# Altium footprint library PcbLib1.PcbLib: 27 footprints (part 1 of 2)
Each footprint in its own frame and in the unit in brackets; x right, y up, seen from the top. Pads: shape width x height; smd on the part's side, far side on the other; paste and mask are expansions set on the pad; w line width, h text height; cw(c..) or ccw(c..) is an arc to the next point about the centre after c.
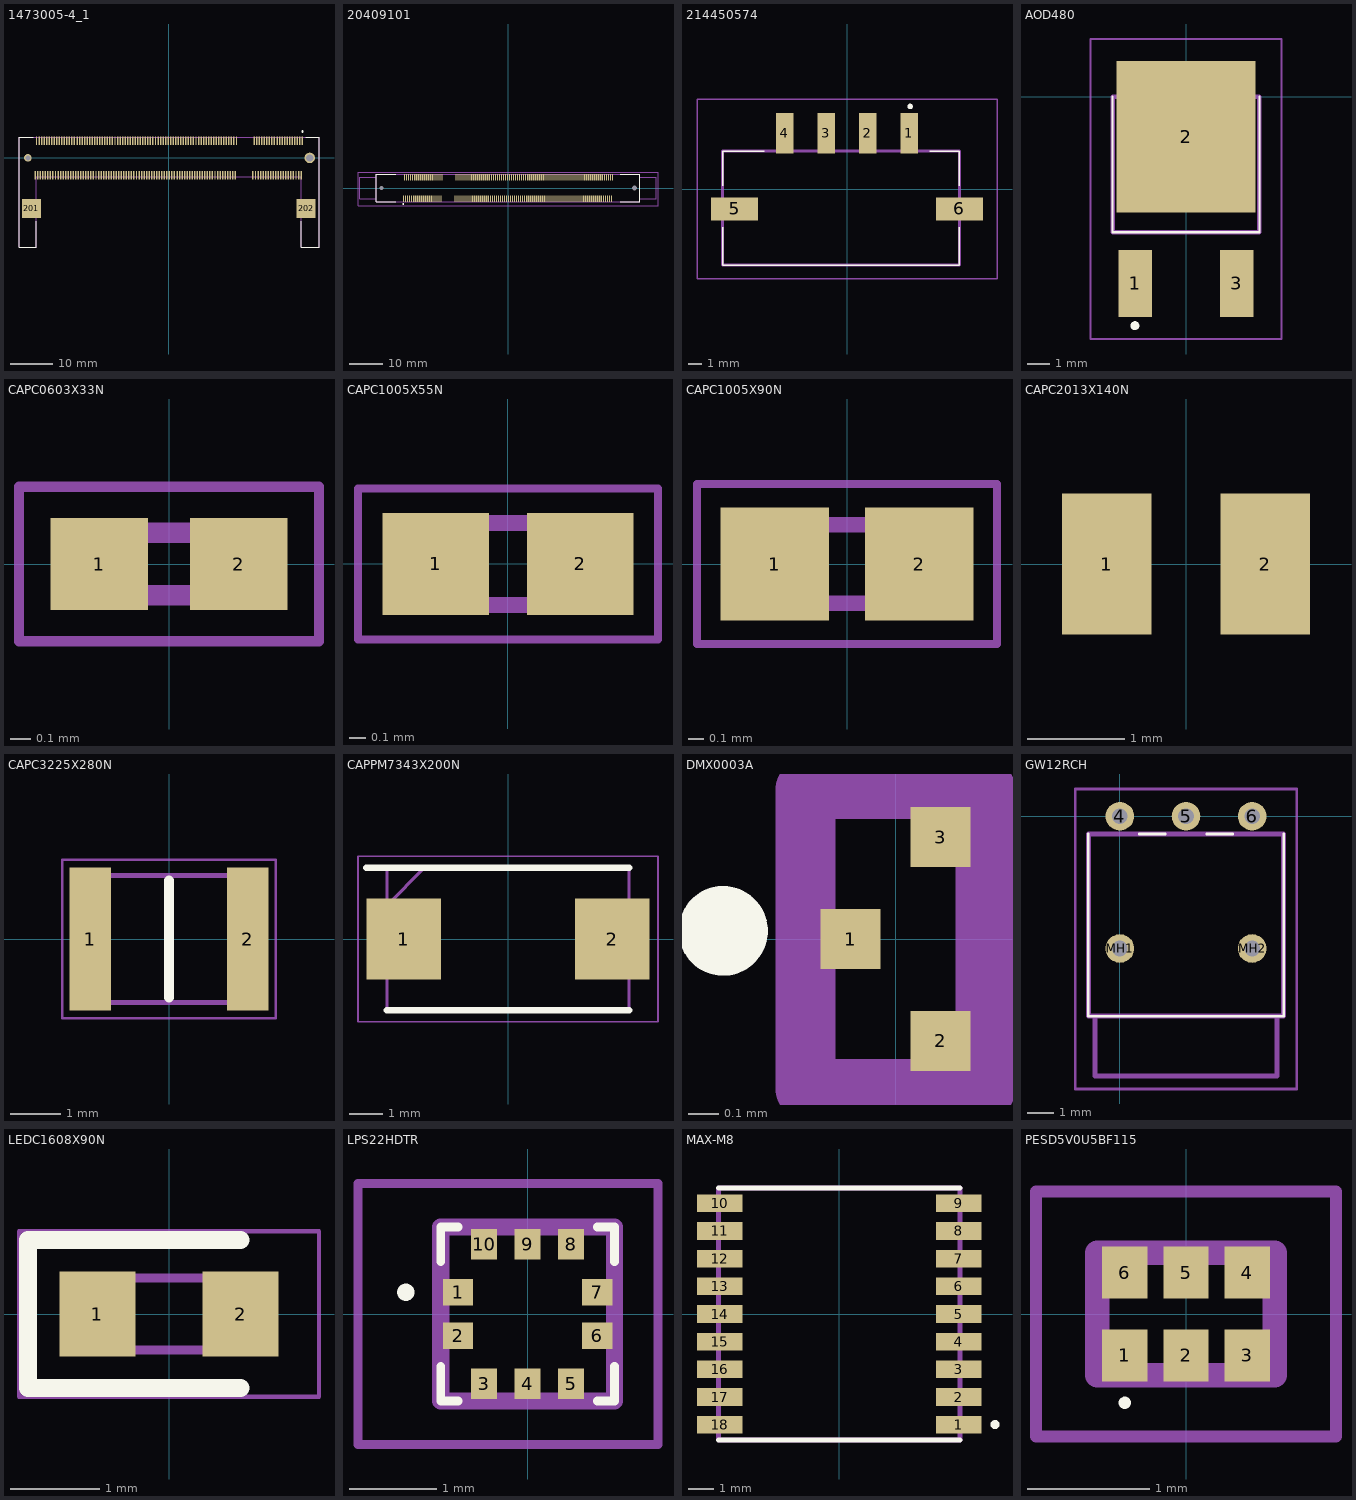
[diagram p0: the footprints below, top view; thin cyan lines are the x and y axes]

## 1473005-4_1 [mm]
pads (204):
  rect 0.35x2 smd: 1(31.65,4.1) 2(31.35,-4.1) 3(31.05,4.1) 4(30.75,-4.1) 5(30.45,4.1) 6(30.15,-4.1) 7(29.85,4.1) 8(29.55,-4.1) 9(29.25,4.1) 10(28.95,-4.1) 11(28.65,4.1) 12(28.35,-4.1) 13(28.05,4.1) 14(27.75,-4.1) 15(27.45,4.1) 16(27.15,-4.1) 17(26.85,4.1) 18(26.55,-4.1) 19(26.25,4.1) 20(25.95,-4.1) 21(25.65,4.1) 22(25.35,-4.1) 23(25.05,4.1) 24(24.75,-4.1) 25(24.45,4.1) 26(24.15,-4.1) 27(23.85,4.1) 28(23.55,-4.1) 29(23.25,4.1) 30(22.95,-4.1) 31(22.65,4.1) 32(22.35,-4.1) 33(22.05,4.1) 34(21.75,-4.1) 35(21.45,4.1) 36(21.15,-4.1) 37(20.85,4.1) 38(20.55,-4.1) 39(20.25,4.1) 40(19.95,-4.1) 41(16.05,4.1) 42(15.75,-4.1) 43(15.45,4.1) 44(15.15,-4.1) 45(14.85,4.1) 46(14.55,-4.1) 47(14.25,4.1) 48(13.95,-4.1) 49(13.65,4.1) 50(13.35,-4.1) 51(13.05,4.1) 52(12.75,-4.1) 53(12.45,4.1) 54(12.15,-4.1) 55(11.85,4.1) 56(11.55,-4.1) 57(11.25,4.1) 58(10.95,-4.1) 59(10.65,4.1) 60(10.35,-4.1) 61(10.05,4.1) 62(9.75,-4.1) 63(9.45,4.1) 64(9.15,-4.1) 65(8.85,4.1) 66(8.55,-4.1) 67(8.25,4.1) 68(7.95,-4.1) 69(7.65,4.1) 70(7.35,-4.1) 71(7.05,4.1) 72(6.75,-4.1) 73(6.45,4.1) 74(6.15,-4.1) 75(5.85,4.1) 76(5.55,-4.1) 77(5.25,4.1) 78(4.95,-4.1) 79(4.65,4.1) 80(4.35,-4.1) 81(4.05,4.1) 82(3.75,-4.1) 83(3.45,4.1) 84(3.15,-4.1) 85(2.85,4.1) 86(2.55,-4.1) 87(2.25,4.1) 88(1.95,-4.1) 89(1.65,4.1) 90(1.35,-4.1) 91(1.05,4.1) 92(0.75,-4.1) 93(0.45,4.1) 94(0.15,-4.1) 95(-0.15,4.1) 96(-0.45,-4.1) 97(-0.75,4.1) 98(-1.05,-4.1) 99(-1.35,4.1) 100(-1.65,-4.1) 101(-1.95,4.1) 102(-2.25,-4.1) 103(-2.55,4.1) 104(-2.85,-4.1) 105(-3.15,4.1) 106(-3.45,-4.1) 107(-3.75,4.1) 108(-4.05,-4.1) 109(-4.35,4.1) 110(-4.65,-4.1) 111(-4.95,4.1) 112(-5.25,-4.1) 113(-5.55,4.1) 114(-5.85,-4.1) 115(-6.15,4.1) 116(-6.45,-4.1) 117(-6.75,4.1) 118(-7.05,-4.1) 119(-7.35,4.1) 120(-7.65,-4.1) 121(-7.95,4.1) 122(-8.25,-4.1) 123(-8.55,4.1) 124(-8.85,-4.1) 125(-9.15,4.1) 126(-9.45,-4.1) 127(-9.75,4.1) 128(-10.05,-4.1) 129(-10.35,4.1) 130(-10.65,-4.1) 131(-10.95,4.1) 132(-11.25,-4.1) 133(-11.55,4.1) 134(-11.85,-4.1) 135(-12.15,4.1) 136(-12.45,-4.1) 137(-12.75,4.1) 138(-13.05,-4.1) 139(-13.35,4.1) 140(-13.65,-4.1) 141(-13.95,4.1) 142(-14.25,-4.1) 143(-14.55,4.1) 144(-14.85,-4.1) 145(-15.15,4.1) 146(-15.45,-4.1) 147(-15.75,4.1) 148(-16.05,-4.1) 149(-16.35,4.1) 150(-16.65,-4.1) 151(-16.95,4.1) 152(-17.25,-4.1) 153(-17.55,4.1) 154(-17.85,-4.1) 155(-18.15,4.1) 156(-18.45,-4.1) 157(-18.75,4.1) 158(-19.05,-4.1) 159(-19.35,4.1) 160(-19.65,-4.1) 161(-19.95,4.1) 162(-20.25,-4.1) 163(-20.55,4.1) 164(-20.85,-4.1) 165(-21.15,4.1) 166(-21.45,-4.1) 167(-21.75,4.1) 168(-22.05,-4.1) 169(-22.35,4.1) 170(-22.65,-4.1) 171(-22.95,4.1) 172(-23.25,-4.1) 173(-23.55,4.1) 174(-23.85,-4.1) 175(-24.15,4.1) 176(-24.45,-4.1) 177(-24.75,4.1) 178(-25.05,-4.1) 179(-25.35,4.1) 180(-25.65,-4.1) 181(-25.95,4.1) 182(-26.25,-4.1) 183(-26.55,4.1) 184(-26.85,-4.1) 185(-27.15,4.1) 186(-27.45,-4.1) 187(-27.75,4.1) 188(-28.05,-4.1) 189(-28.35,4.1) 190(-28.65,-4.1) 191(-28.95,4.1) 192(-29.25,-4.1) 193(-29.55,4.1) 194(-29.85,-4.1) 195(-30.15,4.1) 196(-30.45,-4.1) 197(-30.75,4.1) 198(-31.05,-4.1) 199(-31.35,4.1) 200(-31.65,-4.1)
  rect 4.5x4.6 smd: 201(-32.55,-12) 202(32.55,-12)
  round 2.5 hole 1.7: 203(33.4,0)
  round 1.8 hole 1.2: 204(-33.4,0)
Top Overlay:
  circle w0.2: c31.678,6.248 r0.144
  lines w0.2: -32.16,4.85 -35.5,4.85 -35.5,-21.15 -31.4,-21.15 -31.4,-14.967 ; 31.4,-14.967 31.4,-21.15 35.6,-21.15 35.6,4.85 ; 32.5,4.85 35.5,4.85
Mechanical 13:
  lines w0.2: 35.5,4.85 -35.5,4.85 -35.5,-21.15 -31.4,-21.15 -31.4,-4.45 31.4,-4.45 31.4,-21.15 35.6,-21.15 35.6,4.85
3D body "1473005-4.stp": height 17.34, standoff -8.7, extent -35.75,-1.1 35.75,5.325

## 20409101 [mm]
pads (202):
  rect 0.35x2 smd: 1(-31.65,-3.3) 2(-31.35,3.3) 3(-31.05,-3.3) 4(-30.75,3.3) 5(-30.45,-3.3) 6(-30.15,3.3) 7(-29.85,-3.3) 8(-29.55,3.3) 9(-29.25,-3.3) 10(-28.95,3.3) 11(-28.65,-3.3) 12(-28.35,3.3) 13(-28.05,-3.3) 14(-27.75,3.3) 15(-27.45,-3.3) 16(-27.15,3.3) 17(-26.85,-3.3) 18(-26.55,3.3) 19(-26.25,-3.3) 20(-25.95,3.3) 21(-25.65,-3.3) 22(-25.35,3.3) 23(-25.05,-3.3) 24(-24.75,3.3) 25(-24.45,-3.3) 26(-24.15,3.3) 27(-23.85,-3.3) 28(-23.55,3.3) 29(-23.25,-3.3) 30(-22.95,3.3) 31(-22.65,-3.3) 32(-22.35,3.3) 33(-22.05,-3.3) 34(-21.75,3.3) 35(-21.45,-3.3) 36(-21.15,3.3) 37(-20.85,-3.3) 38(-20.55,3.3) 39(-20.25,-3.3) 40(-19.95,3.3) 41(-16.05,-3.3) 42(-15.75,3.3) 43(-15.45,-3.3) 44(-15.15,3.3) 45(-14.85,-3.3) 46(-14.55,3.3) 47(-14.25,-3.3) 48(-13.95,3.3) 49(-13.65,-3.3) 50(-13.35,3.3) 51(-13.05,-3.3) 52(-12.75,3.3) 53(-12.45,-3.3) 54(-12.15,3.3) 55(-11.85,-3.3) 56(-11.55,3.3) 57(-11.25,-3.3) 58(-10.95,3.3) 59(-10.65,-3.3) 60(-10.35,3.3) 61(-10.05,-3.3) 62(-9.75,3.3) 63(-9.45,-3.3) 64(-9.15,3.3) 65(-8.85,-3.3) 66(-8.55,3.3) 67(-8.25,-3.3) 68(-7.95,3.3) 69(-7.65,-3.3) 70(-7.35,3.3) 71(-7.05,-3.3) 72(-6.75,3.3) 73(-6.45,-3.3) 74(-6.15,3.3) 75(-5.85,-3.3) 76(-5.55,3.3) 77(-5.25,-3.3) 78(-4.95,3.3) 79(-4.65,-3.3) 80(-4.35,3.3) 81(-4.05,-3.3) 82(-3.75,3.3) 83(-3.45,-3.3) 84(-3.15,3.3) 85(-2.85,-3.3) 86(-2.55,3.3) 87(-2.25,-3.3) 88(-1.95,3.3) 89(-1.65,-3.3) 90(-1.35,3.3) 91(-1.05,-3.3) 92(-0.75,3.3) 93(-0.45,-3.3) 94(-0.15,3.3) 95(0.15,-3.3) 96(0.45,3.3) 97(0.75,-3.3) 98(1.05,3.3) 99(1.35,-3.3) 100(1.65,3.3) 101(1.95,-3.3) 102(2.25,3.3) 103(2.55,-3.3) 104(2.85,3.3) 105(3.15,-3.3) 106(3.45,3.3) 107(3.75,-3.3) 108(4.05,3.3) 109(4.35,-3.3) 110(4.65,3.3) 111(4.95,-3.3) 112(5.25,3.3) 113(5.55,-3.3) 114(5.85,3.3) 115(6.15,-3.3) 116(6.45,3.3) 117(6.75,-3.3) 118(7.05,3.3) 119(7.35,-3.3) 120(7.65,3.3) 121(7.95,-3.3) 122(8.25,3.3) 123(8.55,-3.3) 124(8.85,3.3) 125(9.15,-3.3) 126(9.45,3.3) 127(9.75,-3.3) 128(10.05,3.3) 129(10.35,-3.3) 130(10.65,3.3) 131(10.95,-3.3) 132(11.25,3.3) 133(11.55,-3.3) 134(11.85,3.3) 135(12.15,-3.3) 136(12.45,3.3) 137(12.75,-3.3) 138(13.05,3.3) 139(13.35,-3.3) 140(13.65,3.3) 141(13.95,-3.3) 142(14.25,3.3) 143(14.55,-3.3) 144(14.85,3.3) 145(15.45,3.3) 146(15.15,-3.3) 147(16.05,3.3) 148(15.75,-3.3) 149(16.65,3.3) 150(16.35,-3.3) 151(17.25,3.3) 152(16.95,-3.3) 153(17.85,3.3) 154(17.55,-3.3) 155(18.45,3.3) 156(18.15,-3.3) 157(19.05,3.3) 158(18.75,-3.3) 159(19.65,3.3) 160(19.35,-3.3) 161(20.25,3.3) 162(19.95,-3.3) 163(20.85,3.3) 164(20.55,-3.3) 165(21.45,3.3) 166(21.15,-3.3) 167(22.05,3.3) 168(21.75,-3.3) 169(22.65,3.3) 170(22.35,-3.3) 171(23.25,3.3) 172(22.95,-3.3) 173(23.85,3.3) 174(23.55,-3.3) 175(24.45,3.3) 176(24.15,-3.3) 177(25.05,3.3) 178(24.75,-3.3) 179(25.65,3.3) 180(25.35,-3.3) 181(26.25,3.3) 182(25.95,-3.3) 183(26.85,3.3) 184(26.55,-3.3) 185(27.45,3.3) 186(27.15,-3.3) 187(28.05,3.3) 188(27.75,-3.3) 189(28.65,3.3) 190(28.35,-3.3) 191(29.25,3.3) 192(28.95,-3.3) 193(29.85,3.3) 194(29.55,-3.3) 195(30.45,3.3) 196(30.15,-3.3) 197(31.05,3.3) 198(30.75,-3.3) 199(31.65,3.3) 200(31.35,-3.3)
  round 0.55 hole 1.1 unplated: MH1(-38.3,0)
  round 0.75 hole 1.5 unplated: MH2(38.3,0)
Top Overlay:
  lines w0.1: -34,-4.2 -39.9,-4.2 -39.9,4.2 -34,4.2 ; 34,-4.2 39.9,-4.2 39.9,4.2 34,4.2
  lines w0.2: -31.8,-4.8 cw(c-31.7,-4.8) -31.6,-4.8 cw(c-31.7,-4.8) -31.8,-4.8
Mechanical 13:
  lines w0.2: -44.9,-3.3 -39.9,-3.3 -39.9,3.3 -44.9,3.3 -44.9,-3.3 ; -39.9,-4.2 -39.9,4.2 39.9,4.2 39.9,-4.2 -39.9,-4.2 ; 39.9,-3.3 39.9,3.3 44.9,3.3 44.9,-3.3 39.9,-3.3
Mechanical 15:
  lines w0.1: -45.4,-5.4 -45.4,4.8 45.4,4.8 45.4,-5.4 -45.4,-5.4
3D body "2040910-1.stp": height 1.8, standoff -14.2, extent -39.9,-4.2 39.9,4.2

## 214450574 [mm]
pads (6):
  rect 1.27x2.92 smd: 1(4.5,4.04) 2(1.5,4.04) 3(-1.5,4.04) 4(-4.5,4.04)
  rect 3.43x1.65 smd: 5(-8.135,-1.44) 6(8.135,-1.44)
Top Overlay:
  lines w0.1: -9,-2.76 -9,-5.5 8.135,-5.5 8.135,-2.76 ; -9,0.24 -9,2.74 -6,2.74 ; 6,2.74 8.135,2.74 8.135,0.24
  lines w0.2: 4.467,5.97 ccw(c4.567,5.97) 4.667,5.97 ccw(c4.567,5.97) 4.467,5.97
Mechanical 13:
  lines w0.2: -9,-5.5 -9,2.74 8.135,2.74 8.135,-5.5 -9,-5.5
Mechanical 15:
  lines w0.1: -10.85,-6.5 -10.85,6.5 10.85,6.5 10.85,-6.5 -10.85,-6.5
3D body "2-1445057-4.stp": height 3.1, standoff 0, extent -9.685,-5.5 9.685,5.373

## AOD480 [mm]
pads (3):
  rect 1.5x3 smd: 1(-2.286,-8.4) 3(2.286,-8.4)
  rect 6.25x6.8 smd: 2(0,-1.8)
Top Overlay:
  lines w0.1: -3.302,0 -3.302,-6 -3.302,-6.096 3.302,-6.096 3.302,0
  lines w0.2: -2.4,-10.3 cw(c-2.3,-10.3) -2.2,-10.3 cw(c-2.3,-10.3) -2.4,-10.3
Mechanical 13:
  lines w0.2: -3.302,-6.096 3.302,-6.096 3.302,0 -3.302,0 -3.302,-6.096
Mechanical 15:
  lines w0.1: -4.302,-10.9 4.302,-10.9 4.302,2.6 -4.302,2.6 -4.302,-10.9

## CAPC0603X33N [mm]
pads (2):
  rect 0.47x0.44 smd: 1(-0.335,0) 2(0.335,0)
Mechanical 13:
  lines w0.1: -0.3,-0.15 -0.3,0.15 0.3,0.15 0.3,-0.15 -0.3,-0.15
Mechanical 15:
  lines w0.05: -0.72,-0.37 -0.72,0.37 0.72,0.37 0.72,-0.37 -0.72,-0.37
3D body "02013A0R5CAT2A.stp": height 0.33, standoff 0, extent -0.3,-0.15 0.3,0.15

## CAPC1005X55N [mm]
pads (2):
  rect 0.65x0.62 smd: 1(-0.44,0) 2(0.44,0)
Mechanical 13:
  lines w0.1: -0.5,-0.25 -0.5,0.25 0.5,0.25 0.5,-0.25 -0.5,-0.25
Mechanical 15:
  lines w0.05: -0.915,-0.46 -0.915,0.46 0.915,0.46 0.915,-0.46 -0.915,-0.46
3D body "C0402C150J4GACTU.stp": height 0.55, standoff 0, extent -0.5,-0.25 0.5,0.25

## CAPC1005X90N [mm]
pads (2):
  rect 0.69x0.72 smd: 1(-0.46,0) 2(0.46,0)
Mechanical 13:
  lines w0.1: -0.5,-0.25 -0.5,0.25 0.5,0.25 0.5,-0.25 -0.5,-0.25
Mechanical 15:
  lines w0.05: -0.955,-0.51 -0.955,0.51 0.955,0.51 0.955,-0.51 -0.955,-0.51
3D body "CL05A106MP8NUB8.stp": height 0.9, standoff 0, extent -0.5,-0.25 0.5,0.25

## CAPC2013X140N [mil]
pads (2):
  rect 36x57 smd: 1(-32,0) 2(32,0)
3D body "C0805C106K9PACTU.stp": height 1743.34, standoff 1686.25, extent -3854.66,419.06 -3768.05,474.18

## CAPC3225X280N [mm]
pads (2):
  rect 0.82x2.82 smd: 1(-1.55,0) 2(1.55,0)
Top Overlay:
  lines w0.2: 0,-1.15 0,1.15
Mechanical 13:
  lines w0.1: -1.6,-1.25 -1.6,1.25 1.6,1.25 1.6,-1.25 -1.6,-1.25
Mechanical 15:
  lines w0.05: -2.11,-1.56 -2.11,1.56 2.11,1.56 2.11,-1.56 -2.11,-1.56
3D body "GRM32ER60G337ME05L.stp": height 2.8, standoff 0, extent -1.6,-1.25 1.6,1.25

## CAPPM7343X200N [mm]
pads (2):
  rect 2.25x2.45 smd: 1(-3.15,0) 2(3.15,0)
Top Overlay:
  lines w0.2: -4.275,2.15 3.65,2.15 ; -3.65,-2.15 3.65,-2.15
Mechanical 13:
  lines w0.1: -3.65,1.025 -2.525,2.15 ; -3.65,-2.15 -3.65,2.15 3.65,2.15 3.65,-2.15 -3.65,-2.15
Mechanical 15:
  lines w0.05: -4.525,-2.5 -4.525,2.5 4.525,2.5 4.525,-2.5 -4.525,-2.5
3D body "6TPC330MA.stp": height 2, standoff 0, extent -3.65,-2.15 3.65,2.15

## DMX0003A [mm]
pads (3):
  rect 0.2x0.2 smd: 1(-0.15,0) 2(0.15,-0.34) 3(0.15,0.34)
Top Overlay:
  circle w0.2: c-0.575,0.027 r0.049
Mechanical 13:
  lines w0.2: -0.3,-0.5 0.3,-0.5 0.3,0.5 -0.3,0.5 -0.3,-0.5

## GW12RCH [mm]
pads (5):
  round 1.1 hole 0.6: 4(0,0) 5(2.54,0) 6(5.08,0) MH1(0,-5.08) MH2(5.08,-5.08)
Top Overlay:
  lines w0.1: -1.21,-0.68 -1.21,-7.68 6.29,-7.68 6.29,-0.68 ; 0.74,-0.68 1.74,-0.68 ; 3.34,-0.68 4.34,-0.68
Mechanical 13:
  lines w0.2: -1.21,-7.68 -1.21,-0.68 6.29,-0.68 6.29,-7.68 -1.21,-7.68 ; -0.96,-9.98 -0.96,-7.68 6.04,-7.68 6.04,-9.98 -0.96,-9.98
Mechanical 15:
  lines w0.1: -1.71,-10.48 -1.71,1.05 6.79,1.05 6.79,-10.48 -1.71,-10.48
3D body "GW12RCH.stp": height 5.5, standoff -5, extent -1.21,-9.98 6.29,0.2

## LEDC1608X90N [mm]
pads (2):
  rect 0.85x0.95 smd: 1(-0.8,0) 2(0.8,0)
Top Overlay:
  lines w0.2: 0.8,-0.825 -1.575,-0.825 -1.575,0.825 0.8,0.825
Mechanical 13:
  lines w0.1: -0.8,0.133 -0.533,0.4 ; -0.8,-0.4 0.8,-0.4 0.8,0.4 -0.8,0.4 -0.8,-0.4
Mechanical 15:
  lines w0.05: -1.675,-0.925 1.675,-0.925 1.675,0.925 -1.675,0.925 -1.675,-0.925

## LPS22HDTR [mm]
pads (10):
  rect 0.35x0.3 smd: 1(-0.8,0.25) 2(-0.8,-0.25) 6(0.8,-0.25) 7(0.8,0.25)
  rect 0.3x0.35 smd: 3(-0.5,-0.8) 4(0,-0.8) 5(0.5,-0.8) 8(0.5,0.8) 9(0,0.8) 10(-0.5,0.8)
Top Overlay:
  lines w0.1: -1,-0.6 -1,-1 -0.8,-1 ; -1,0.6 -1,1 -0.8,1 ; 0.8,-1 1,-1 1,-0.6 ; 0.8,1 1,1 1,0.6 ; -1.4,0.2 cw(c-1.4,0.25) -1.4,0.3 cw(c-1.4,0.25) -1.4,0.2
Mechanical 13:
  lines w0.2: -1,-1 -1,1 1,1 1,-1 -1,-1
Mechanical 15:
  lines w0.1: -1.95,-1.5 -1.95,1.5 1.5,1.5 1.5,-1.5 -1.95,-1.5
3D body "LPS22HDTR.stp": height 0.9, standoff 0, extent -1,-1 1,1

## MAX-M8 [mm]
pads (18):
  rect 1.8x0.7 smd: 1(4.75,-4.4) 2(4.75,-3.3) 3(4.75,-2.2) 4(4.75,-1.1) 5(4.75,0) 6(4.75,1.1) 7(4.75,2.2) 8(4.75,3.3) 9(4.75,4.4) 10(-4.75,4.4) 11(-4.75,3.3) 12(-4.75,2.2) 13(-4.75,1.1) 14(-4.75,0) 15(-4.75,-1.1) 16(-4.75,-2.2) 17(-4.75,-3.3) 18(-4.75,-4.4)
Top Overlay:
  circle w0.2: c6.194,-4.394 r0.078
  lines w0.2: -4.8,-5 4.8,-5 ; -4.8,5 4.8,5
Mechanical 13:
  lines w0.2: -4.8,-5 4.8,-5 4.8,5 -4.8,5 -4.8,-5

## PESD5V0U5BF115 [mm]
pads (6):
  rect 0.37x0.425 smd: 1(-0.5,-0.338) 2(0,-0.338) 3(0.5,-0.338) 4(0.5,0.338) 5(0,0.338) 6(-0.5,0.338)
Top Overlay:
  lines w0.05: -0.5,-0.75 ccw(c-0.5,-0.725) -0.5,-0.7 ccw(c-0.5,-0.725) -0.5,-0.75
Mechanical 13:
  lines w0.2: -0.725,-0.5 -0.725,0.5 0.725,0.5 0.725,-0.5 -0.725,-0.5
Mechanical 15:
  lines w0.1: -1.225,-1 -1.225,1 1.225,1 1.225,-1 -1.225,-1
3D body "PESD5V0U5BF,115.stp": height 0.6, standoff 0, extent -0.725,-0.5 0.725,0.5